# Altium footprint library Shrink Small Outline (~0.6mm Pitch).PcbLib: 43 footprints (part 1 of 3)
Each footprint in its own frame and in the unit in brackets; x right, y up, seen from the top. Pads: shape width x height; smd on the part's side, far side on the other; paste and mask are expansions set on the pad; w line width, h text height; cw(c..) or ccw(c..) is an arc to the next point about the centre after c.
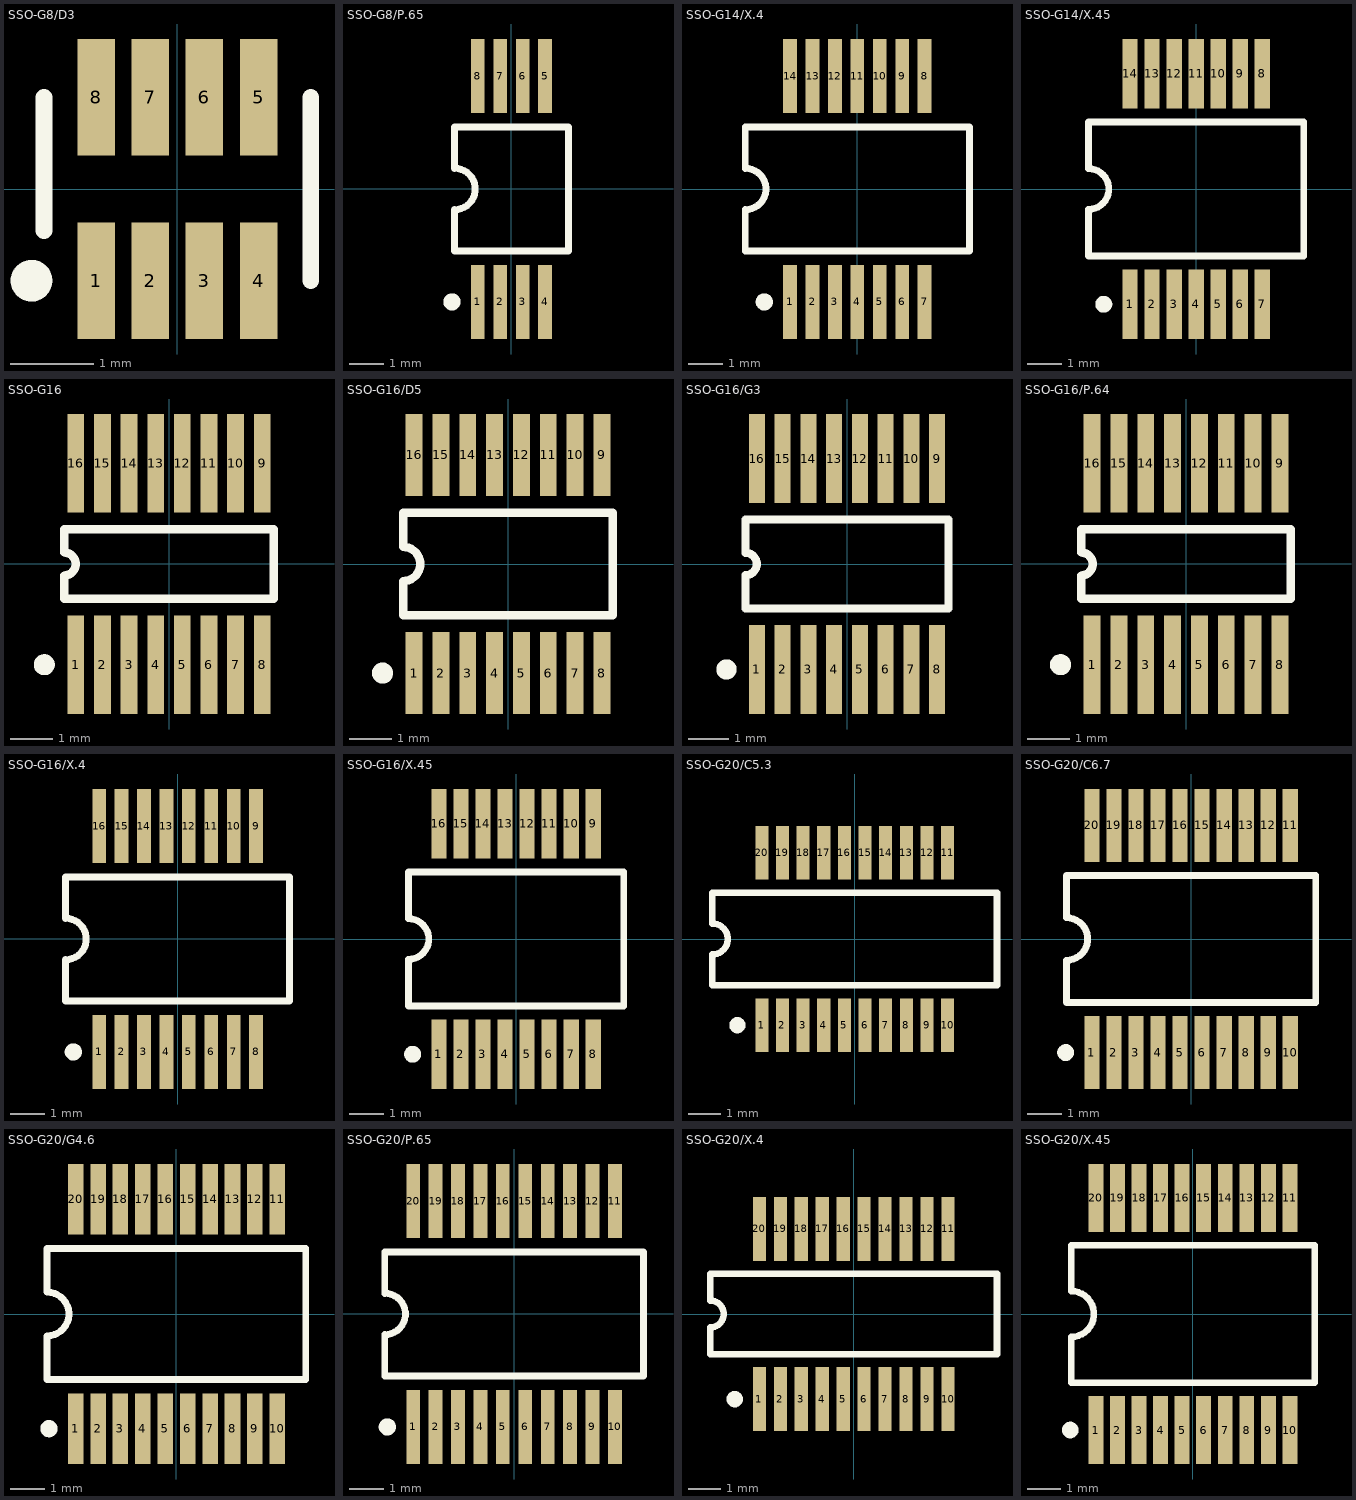
[diagram p0: the footprints below, top view; thin cyan lines are the x and y axes]

## SSO-G8/D3 [mm] "SSOP; 8 Leads; Body Width 1.6 mm; Pitch 0.65 mm"
height 1.45
pads (8):
  rect 0.45x1.4 smd: 1(-0.975,-1.1) 2(-0.325,-1.1) 3(0.325,-1.1) 4(0.975,-1.1) 5(0.975,1.1) 6(0.325,1.1) 7(-0.325,1.1) 8(-0.975,1.1)
Top Overlay:
  circle w0.25: c-1.75,-1.1 r0.125
  lines w0.2: -1.6,-0.5 -1.6,1.1 ; 1.6,-1.1 1.6,1.1

## SSO-G8/P.65 [mm] "SSOP, Plastic; 8 Leads; Body Width 5.3 mm; Pitch 0.65 mm"
height 2
pads (8):
  rect 0.4x2.15 smd: 1(-0.975,-3.275) 2(-0.325,-3.275) 3(0.325,-3.275) 4(0.975,-3.275) 5(0.975,3.275) 6(0.325,3.275) 7(-0.325,3.275) 8(-0.975,3.275)
Top Overlay:
  circle w0.25: c-1.725,-3.275 r0.125
  lines w0.2: -1.65,-1.8 1.65,-1.8 1.65,1.8 -1.65,1.8 -1.65,0.6 cw(c-1.65,0) -1.65,-0.6 -1.65,-1.8

## SSO-G14/X.4 [mm] "SSOP; 14 Leads; Body Width 5.3 mm; Pitch 0.65 mm"
height 2
pads (14):
  rect 0.4x2.15 smd: 1(-1.95,-3.275) 2(-1.3,-3.275) 3(-0.65,-3.275) 4(0,-3.275) 5(0.65,-3.275) 6(1.3,-3.275) 7(1.95,-3.275) 8(1.95,3.275) 9(1.3,3.275) 10(0.65,3.275) 11(0,3.275) 12(-0.65,3.275) 13(-1.3,3.275) 14(-1.95,3.275)
Top Overlay:
  circle w0.25: c-2.7,-3.275 r0.125
  lines w0.2: -3.25,-1.8 -3.25,-0.6 ccw(c-3.25,0) -3.25,0.6 -3.25,1.8 3.25,1.8 3.25,-1.8 -3.25,-1.8

## SSO-G14/X.45 [mm] "SSOP; 14 Leads; Body Width 5.3 mm; Pitch 0.65 mm"
height 1.99
pads (14):
  rect 0.45x2.05 smd: 1(-1.95,-3.4) 2(-1.3,-3.4) 3(-0.65,-3.4) 4(0,-3.4) 5(0.65,-3.4) 6(1.3,-3.4) 7(1.95,-3.4) 8(1.95,3.4) 9(1.3,3.4) 10(0.65,3.4) 11(0,3.4) 12(-0.65,3.4) 13(-1.3,3.4) 14(-1.95,3.4)
Top Overlay:
  circle w0.25: c-2.725,-3.4 r0.125
  lines w0.2: -3.175,-0.625 -3.175,-1.975 3.175,-1.975 3.175,1.975 -3.175,1.975 -3.175,0.625 ; -3.175,-0.6 ccw(c-3.175,0) -3.175,0.6

## SSO-G16 [mm] "SSOP; 16 Leads; Body Width 3.9 mm; Pitch 0.635 mm"
height 1.76
pads (16):
  rect 0.4x2.35 smd: 1(-2.222,-2.4) 2(-1.587,-2.4) 3(-0.953,-2.4) 4(-0.318,-2.4) 5(0.318,-2.4) 6(0.953,-2.4) 7(1.587,-2.4) 8(2.222,-2.4) 9(2.222,2.4) 10(1.587,2.4) 11(0.953,2.4) 12(0.318,2.4) 13(-0.318,2.4) 14(-0.953,2.4) 15(-1.587,2.4) 16(-2.222,2.4)
Top Overlay:
  circle w0.25: c-2.973,-2.4 r0.125
  lines w0.2: -2.5,-0.825 2.5,-0.825 2.5,0.825 -2.5,0.825 -2.5,0.275 cw(c-2.5,0) -2.5,-0.275 -2.5,-0.825

## SSO-G16/D5 [mm] "SSOP; 16 Leads; Body Width 3.9 mm; Pitch 0.64 mm"
height 1.75
pads (16):
  rect 0.4x1.95 smd: 1(-2.24,-2.6) 2(-1.6,-2.6) 3(-0.96,-2.6) 4(-0.32,-2.6) 5(0.32,-2.6) 6(0.96,-2.6) 7(1.6,-2.6) 8(2.24,-2.6) 9(2.24,2.6) 10(1.6,2.6) 11(0.96,2.6) 12(0.32,2.6) 13(-0.32,2.6) 14(-0.96,2.6) 15(-1.6,2.6) 16(-2.24,2.6)
Top Overlay:
  circle w0.25: c-2.99,-2.6 r0.125
  lines w0.2: -2.5,-1.225 2.5,-1.225 2.5,1.225 -2.5,1.225 -2.5,0.408 cw(c-2.5,0) -2.5,-0.408 -2.5,-1.225

## SSO-G16/G3 [mm] "SSOP; 16 Leads; Body Width 3.9 mm; Pitch 0.635 mm"
height 1.76
pads (16):
  rect 0.4x2.2 smd: 1(-2.222,-2.6) 2(-1.587,-2.6) 3(-0.953,-2.6) 4(-0.318,-2.6) 5(0.318,-2.6) 6(0.953,-2.6) 7(1.587,-2.6) 8(2.222,-2.6) 9(2.222,2.6) 10(1.587,2.6) 11(0.953,2.6) 12(0.318,2.6) 13(-0.318,2.6) 14(-0.953,2.6) 15(-1.587,2.6) 16(-2.222,2.6)
Top Overlay:
  circle w0.25: c-2.973,-2.6 r0.125
  lines w0.2: -2.5,-1.1 2.5,-1.1 2.5,1.1 -2.5,1.1 -2.5,0.275 cw(c-2.5,0) -2.5,-0.275 -2.5,-1.1

## SSO-G16/P.64 [mm] "SSOP; 16 Leads; Body Width 3.9 mm; Pitch 0.64 mm"
height 1.75
pads (16):
  rect 0.4x2.35 smd: 1(-2.24,-2.4) 2(-1.6,-2.4) 3(-0.96,-2.4) 4(-0.32,-2.4) 5(0.32,-2.4) 6(0.96,-2.4) 7(1.6,-2.4) 8(2.24,-2.4) 9(2.24,2.4) 10(1.6,2.4) 11(0.96,2.4) 12(0.32,2.4) 13(-0.32,2.4) 14(-0.96,2.4) 15(-1.6,2.4) 16(-2.24,2.4)
Top Overlay:
  circle w0.25: c-2.99,-2.4 r0.125
  lines w0.2: -2.5,-0.825 2.5,-0.825 2.5,0.825 -2.5,0.825 -2.5,0.275 cw(c-2.5,0) -2.5,-0.275 -2.5,-0.825

## SSO-G16/X.4 [mm] "SSOP; 16 Leads; Body Width 5.3 mm; Pitch 0.65 mm"
height 2
pads (16):
  rect 0.4x2.15 smd: 1(-2.275,-3.275) 2(-1.625,-3.275) 3(-0.975,-3.275) 4(-0.325,-3.275) 5(0.325,-3.275) 6(0.975,-3.275) 7(1.625,-3.275) 8(2.275,-3.275) 9(2.275,3.275) 10(1.625,3.275) 11(0.975,3.275) 12(0.325,3.275) 13(-0.325,3.275) 14(-0.975,3.275) 15(-1.625,3.275) 16(-2.275,3.275)
Top Overlay:
  circle w0.25: c-3.025,-3.275 r0.125
  lines w0.2: -3.25,-1.8 3.25,-1.8 3.25,1.8 -3.25,1.8 -3.25,0.6 cw(c-3.25,0) -3.25,-0.6 -3.25,-1.8

## SSO-G16/X.45 [mm] "SSOP; 16 Leads; Body Width 5.3 mm; Pitch 0.65 mm"
height 1.99
pads (16):
  rect 0.45x2.05 smd: 1(-2.275,-3.4) 2(-1.625,-3.4) 3(-0.975,-3.4) 4(-0.325,-3.4) 5(0.325,-3.4) 6(0.975,-3.4) 7(1.625,-3.4) 8(2.275,-3.4) 9(2.275,3.4) 10(1.625,3.4) 11(0.975,3.4) 12(0.325,3.4) 13(-0.325,3.4) 14(-0.975,3.4) 15(-1.625,3.4) 16(-2.275,3.4)
Top Overlay:
  circle w0.25: c-3.05,-3.4 r0.125
  lines w0.2: -3.175,-0.625 -3.175,-1.975 3.175,-1.975 3.175,1.975 -3.175,1.975 -3.175,0.625 ; -3.175,-0.6 ccw(c-3.175,0) -3.175,0.6

## SSO-G20/C5.3 [mm] "SSOP; 20 Leads; Body Width 3.9 mm; Pitch 0.635 mm"
height 1.73
pads (20):
  rect 0.4x1.65 smd: 1(-2.857,-2.65) 2(-2.222,-2.65) 3(-1.587,-2.65) 4(-0.953,-2.65) 5(-0.318,-2.65) 6(0.318,-2.65) 7(0.953,-2.65) 8(1.587,-2.65) 9(2.222,-2.65) 10(2.857,-2.65) 11(2.857,2.65) 12(2.222,2.65) 13(1.587,2.65) 14(0.953,2.65) 15(0.318,2.65) 16(-0.318,2.65) 17(-0.953,2.65) 18(-1.587,2.65) 19(-2.222,2.65) 20(-2.857,2.65)
Top Overlay:
  circle w0.25: c-3.608,-2.65 r0.125
  lines w0.2: -4.375,-1.425 -4.375,-0.475 ccw(c-4.375,0) -4.375,0.475 -4.375,1.425 4.375,1.425 4.375,-1.425 -4.375,-1.425

## SSO-G20/C6.7 [mm] "SSOP; 20 Leads; Body Width 5.3 mm; Pitch 0.65 mm"
height 1.99
pads (20):
  rect 0.45x2.15 smd: 1(-2.925,-3.35) 2(-2.275,-3.35) 3(-1.625,-3.35) 4(-0.975,-3.35) 5(-0.325,-3.35) 6(0.325,-3.35) 7(0.975,-3.35) 8(1.625,-3.35) 9(2.275,-3.35) 10(2.925,-3.35) 11(2.925,3.35) 12(2.275,3.35) 13(1.625,3.35) 14(0.975,3.35) 15(0.325,3.35) 16(-0.325,3.35) 17(-0.975,3.35) 18(-1.625,3.35) 19(-2.275,3.35) 20(-2.925,3.35)
Top Overlay:
  circle w0.25: c-3.7,-3.35 r0.125
  lines w0.2: -3.675,-1.875 -3.675,-0.625 ccw(c-3.675,0) -3.675,0.625 -3.675,1.875 3.675,1.875 3.675,-1.875 -3.675,-1.875

## SSO-G20/G4.6 [mm] "SSOP; 20 Leads; Body Width 5.3 mm; Pitch 0.65 mm"
height 1.98
pads (20):
  rect 0.45x2.05 smd: 1(-2.925,-3.325) 2(-2.275,-3.325) 3(-1.625,-3.325) 4(-0.975,-3.325) 5(-0.325,-3.325) 6(0.325,-3.325) 7(0.975,-3.325) 8(1.625,-3.325) 9(2.275,-3.325) 10(2.925,-3.325) 11(2.925,3.325) 12(2.275,3.325) 13(1.625,3.325) 14(0.975,3.325) 15(0.325,3.325) 16(-0.325,3.325) 17(-0.975,3.325) 18(-1.625,3.325) 19(-2.275,3.325) 20(-2.925,3.325)
Top Overlay:
  circle w0.25: c-3.7,-3.325 r0.125
  lines w0.2: -3.75,-1.9 3.75,-1.9 3.75,1.9 -3.75,1.9 -3.75,0.633 cw(c-3.75,0) -3.75,-0.633 -3.75,-1.9

## SSO-G20/P.65 [mm] "SSOP, Plastic; 20 Leads; Body Width 5.3 mm; Pitch 0.65 mm"
height 2
pads (20):
  rect 0.4x2.15 smd: 1(-2.925,-3.275) 2(-2.275,-3.275) 3(-1.625,-3.275) 4(-0.975,-3.275) 5(-0.325,-3.275) 6(0.325,-3.275) 7(0.975,-3.275) 8(1.625,-3.275) 9(2.275,-3.275) 10(2.925,-3.275) 11(2.925,3.275) 12(2.275,3.275) 13(1.625,3.275) 14(0.975,3.275) 15(0.325,3.275) 16(-0.325,3.275) 17(-0.975,3.275) 18(-1.625,3.275) 19(-2.275,3.275) 20(-2.925,3.275)
Top Overlay:
  circle w0.25: c-3.675,-3.275 r0.125
  lines w0.2: -3.75,-1.8 3.75,-1.8 3.75,1.8 -3.75,1.8 -3.75,0.6 cw(c-3.75,0) -3.75,-0.6 -3.75,-1.8

## SSO-G20/X.4 [mm] "SSOP; 20 Leads; Body Width 3.9 mm; Pitch 0.64 mm"
height 1.75
pads (20):
  rect 0.4x1.95 smd: 1(-2.88,-2.6) 2(-2.24,-2.6) 3(-1.6,-2.6) 4(-0.96,-2.6) 5(-0.32,-2.6) 6(0.32,-2.6) 7(0.96,-2.6) 8(1.6,-2.6) 9(2.24,-2.6) 10(2.88,-2.6) 11(2.88,2.6) 12(2.24,2.6) 13(1.6,2.6) 14(0.96,2.6) 15(0.32,2.6) 16(-0.32,2.6) 17(-0.96,2.6) 18(-1.6,2.6) 19(-2.24,2.6) 20(-2.88,2.6)
Top Overlay:
  circle w0.25: c-3.63,-2.6 r0.125
  lines w0.2: -4.375,-1.225 -4.375,-0.408 ccw(c-4.375,0) -4.375,0.408 -4.375,1.225 4.375,1.225 4.375,-1.225 -4.375,-1.225

## SSO-G20/X.45 [mm] "SSOP; 20 Leads; Body Width 5.3 mm; Pitch 0.65 mm"
height 1.99
pads (20):
  rect 0.45x2.05 smd: 1(-2.925,-3.5) 2(-2.275,-3.5) 3(-1.625,-3.5) 4(-0.975,-3.5) 5(-0.325,-3.5) 6(0.325,-3.5) 7(0.975,-3.5) 8(1.625,-3.5) 9(2.275,-3.5) 10(2.925,-3.5) 11(2.925,3.5) 12(2.275,3.5) 13(1.625,3.5) 14(0.975,3.5) 15(0.325,3.5) 16(-0.325,3.5) 17(-0.975,3.5) 18(-1.625,3.5) 19(-2.275,3.5) 20(-2.925,3.5)
Top Overlay:
  circle w0.25: c-3.7,-3.5 r0.125
  lines w0.2: -3.675,-2.075 -3.675,-0.692 ccw(c-3.675,0) -3.675,0.692 -3.675,2.075 3.675,2.075 3.675,-2.075 -3.675,-2.075